# EAGLE library part CY7C1019B (library ads4)
Cypress 128k x 8 SRAM
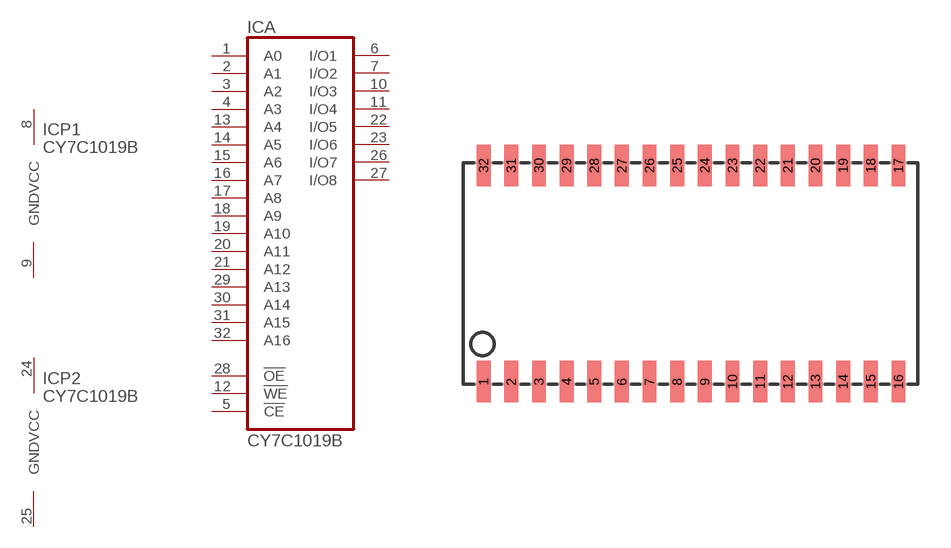
[diagram p19: symbol with the pads of SOJ32-400; footprint SOJ32-400]

Designator prefix IC; gates A=SRAM128KX8-A P1=POWER2 P2=POWER2

## CY7C1019BV33  [SOJ32-400]
1  A:A0  in
2  A:A1  in
3  A:A2  in
4  A:A3  in
5  A:!CE  in
6  A:I/O1
7  A:I/O2
8  P1:VCC  pwr
9  P1:GND  pwr
10  A:I/O3
11  A:I/O4
12  A:!WE  in
13  A:A4  in
14  A:A5  in
15  A:A6  in
16  A:A7  in
17  A:A8  in
18  A:A9  in
19  A:A10  in
20  A:A11  in
21  A:A12  in
22  A:I/O5
23  A:I/O6
24  P2:VCC  pwr
25  P2:GND  pwr
26  A:I/O7
27  A:I/O8
28  A:!OE  in
29  A:A13  in
30  A:A14  in
31  A:A15  in
32  A:A16  in

## Footprint SOJ32-400 (pad centres in mm)
SOJ 32-pin 400mil package
smd 0.635 x 1.905: 1 -8.89,-4.902; 2 -7.62,-4.902; 3 -6.35,-4.902; 4 -5.08,-4.902; 5 -3.81,-4.902; 6 -2.54,-4.902; 7 -1.27,-4.902; 8 0,-4.902; 9 1.27,-4.902; 10 2.54,-4.902; 11 3.81,-4.902; 12 5.08,-4.902; 13 6.35,-4.902; 14 7.62,-4.902; 15 8.89,-4.902; 16 10.16,-4.902; 17 10.16,5.029; 18 8.89,5.029; 19 7.62,5.029; 20 6.35,5.029; 21 5.08,5.029; 22 3.81,5.029; 23 2.54,5.029; 24 1.27,5.029; 25 0,5.029; 26 -1.27,5.029; 27 -2.54,5.029; 28 -3.81,5.029; 29 -5.08,5.029; 30 -6.35,5.029; 31 -7.62,5.029; 32 -8.89,5.029